# Altium integrated library Product_Sorter.IntLib: 29 symbols
Pins are listed as number, name and electrical type; pins without a type are passive.

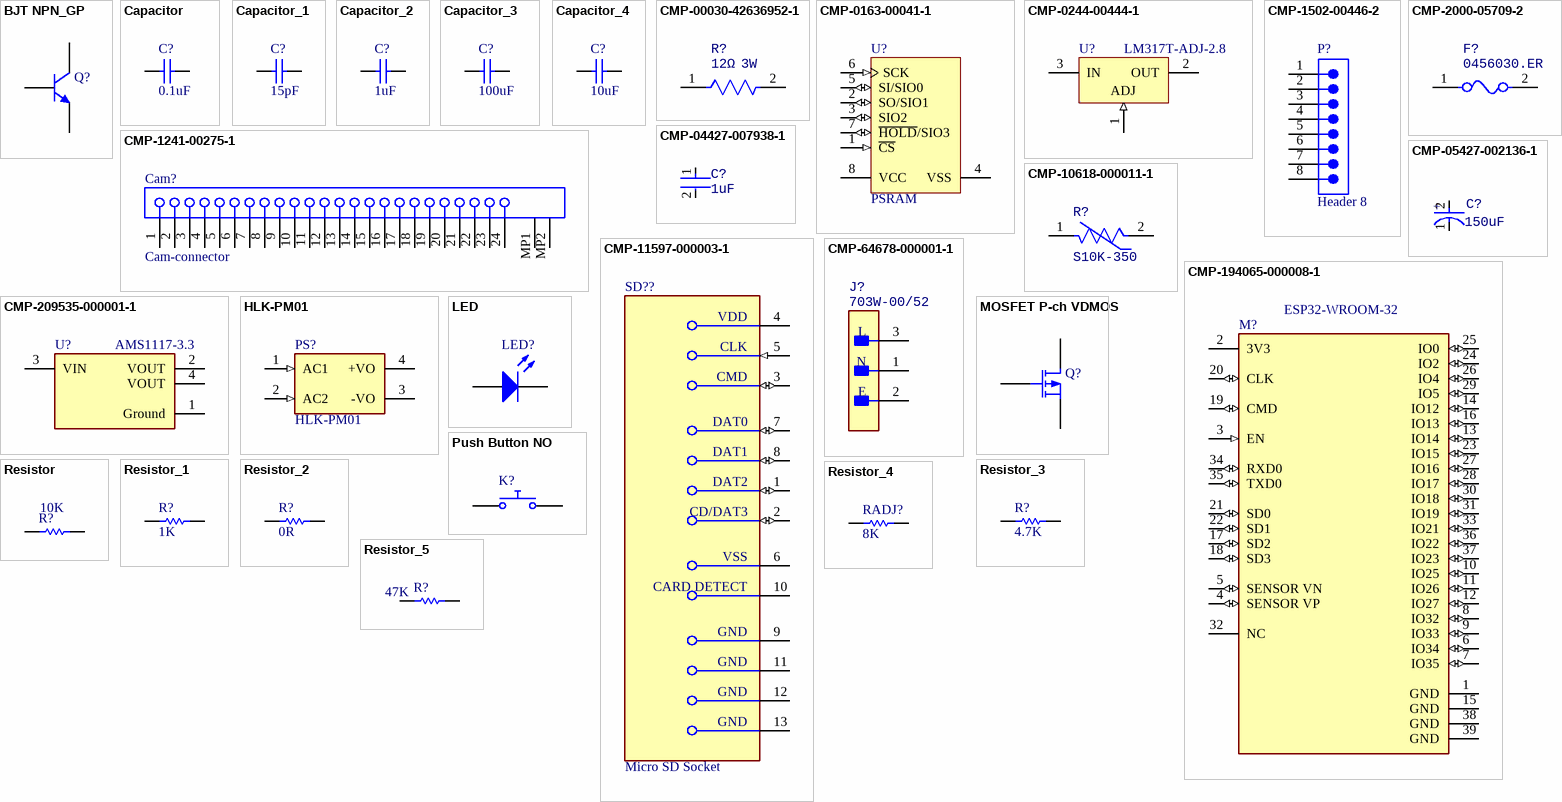
[diagram p0: symbols BJT NPN_GP to Resistor_5]

## BJT NPN_GP
designator Q?, comment Bipolar NPN 3 Pins Transistor Gummel-Poon Model  (value not drawn)
SimulationGenericComponent: True; BF: 100; AF: 0; BR: 1; EG: 1.11; FC: 0.5; IS: 1e-16; MJC: 0.33; NC: 2; NE: 1.5; TNOM: 27; VBC_MAX: 1e99; VJC: 0.75; XTI: 3; CJC: 0; CJE: 0; CJS: 0; CTC: 0; CTE: 0; CTS: 0; IKF: 0; IKR: 0; IRB: 0; ISC: 0; ISE: 0; ISS: 0; ITF: 0; KF: 0; MJE: 0.33; MJS: 0; NF: 1; NKF: 0.5; NR: 1; NS: 1; PTF: 0; RB: 0; RBM: 0; RC: 0; RE: 0; SUBS: 1; TBF1: 0; TBF2: 0; TBR1: 0; TBR2: 0; TF: 0; TIKF1: 0; TIKF2: 0; TIKR1: 0; TIKR2: 0; TIRB1: 0; TIRB2: 0; TIS1: 0; TIS2: 0; TISC1: 0; TISC2: 0; TISE1: 0; TISE2: 0; TITF1: 0; TITF2: 0; TLEV: 0; TLEVC: 0; TMJC1: 0; TMJC2: 0; TMJE1: 0; TMJE2: 0; TMJS1: 0; TMJS2: 0; TNC1: 0; TNC2: 0; TNE1: 0; TNE2: 0; TNF1: 0; TNF2: 0; TNR1: 0; TNR2: 0; TNS1: 0; TNS2: 0; TR: 0; TRB1: 0; TRB2: 0; TRC1: 0; TRC2: 0; TRE1: 0; TRE2: 0; TRM1: 0; TRM2: 0; TTF1: 0; TTF2: 0; TTR1: 0; TTR2: 0; TVAF1: 0; TVAF2: 0; TVAR1: 0; TVAR2: 0; TVJC: 0; TVJE: 0; TVJS: 0; VAF: 0; VAR: 0; VBE_MAX: 1e99; VCE_MAX: 1e99; VJE: 0.75; VJS: 0.75; VTF: 0; XCJC: 1; XTB: 0; XTF: 0
simulation model NPN_Gummel_Poon (NGSPICE_NPN_MOD_GUMMEL_POON)
pins: 1 C, 2 B, 3 E

## Capacitor
designator C?  value 0.1uF  (hidden comment: Capacitor)
SimulationGenericComponent: True
simulation model C_Capacitor_Default (CAP)
pins: 1, 2

## Capacitor_1
designator C?, comment value 15pF  (hidden comment: Capacitor)
SimulationGenericComponent: True
simulation model C_Capacitor_Default (CAP)
pins: 1, 2

## Capacitor_2
designator C?, comment value 1uF  (hidden comment: Capacitor)
SimulationGenericComponent: True
simulation model C_Capacitor_Default (CAP)
pins: 1, 2

## Capacitor_3
designator C?, comment value 100uF  (hidden comment: Capacitor)
SimulationGenericComponent: True
simulation model C_Capacitor_Default (CAP)
pins: 1, 2

## Capacitor_4
designator C?, comment value 10uF  (hidden comment: Capacitor)
SimulationGenericComponent: True
simulation model C_Capacitor_Default (CAP)
pins: 1, 2

## CMP-00030-42636952-1
designator R?, comment Power Rating: 3W  Resistance: 12Ω  (hidden comment: RWM04103R90JR15E1)
RWM04103R90JR15E1 Resistor; Wirewound; Res 3.9 Ohms; Pwr-Rtg 3 W; Tol 5%; Axial; Vitreous Enamel; NexarPartId: 42636952; Lead Diameter: 800µm; Voltage Rating: 120V; Temperature Coefficient: 75ppm/°C; REACH SVHC: No SVHC; Military Standard: Not; Tolerance: 5%; Min Operating Temperature: -55°C; Case/Package: Axial; Voltage Rating (AC): 120V; Diameter: 5.5mm; Termination: Axial; Length: 12mm; Width: 5.5mm; Mount: Through Hole; Max Operating Temperature: 350°C; Max Power Dissipation: 3W; Contact Plating: Copper, Silver, Tin; Height: 6.5mm; RoHS: Compliant; Number of Terminations: 2; Voltage Rating (DC): 120V; Composition: Wirewound; Radiation Hardening: No
footprint FP-RWM0410-MFG (Resistor; Wirewound; Res 3.9 Ohms; Pwr-Rtg 3 W; Tol 5%; Axial; Vitreous Enamel)
pins: 1, 2

## CMP-0163-00041-1
designator U?, comment PSRAM
512K bits SPI Serial SRAM with SDI and SQI Interface, 2.5 to 5.5 V, 20 MHz, -40 to 85 degC, 8-pin SOIC (SN8), Tube; Manufacturer: Microchip; PartNumber: 23LC512-I/SN; ComponentLink1Description: Manufacturer URL; DatasheetVersion: Rev. A; ComponentLink3Description: Package Specification; ComponentLink2URL: http://ww1.microchip.com/downloads/en/DeviceDoc/25155A.pdf; ComponentLink4Description: Product URL; ComponentLink4URL: http://www.microchip.com/23LC512; PackageReference: SOIC-SN8; PackageVersion: C04-057C; ComponentLink1URL: http://www.microchip.com; ComponentLink2Description: Datasheet; PackageDescription: 8-Lead Plastic Small Outline, 4.9 x 3.9 mm Body, 1.27 mm Pitch; ComponentLink3URL: http://www.microchip.com/stellent/groups/techpub_sg/documents/packagingspec/en012702.pdf; Mounting Technology: Surface Mount
footprint MCHP-SOIC-SN8_N (SOIC, 8-Leads, Body 4.9x3.9mm, Pitch 1.27mm, IPC Medium Density)
footprint MCHP-SOIC-SN8_M (SOIC, 8-Leads, Body 4.9x3.9mm, Pitch 1.27mm, IPC Low Density)
footprint MCHP-SOIC-SN8_L (SOIC, 8-Leads, Body 4.9x3.9mm, Pitch 1.27mm, IPC High Density)
pins: 1 ~{CS} (in) "Chip Select Input", 2 SO/SIO1 (io) "Serial Output/SDI/SQI Pin", 3 SIO2 (io) "SQI Pin", 4 VSS (power) "Ground", 5 SI/SIO0 (io) "Serial Input/SDI/SQI Pin", 6 SCK (in) "Serial Clock", 7 ~{HOLD}/SIO3 (io) "Hold/SQI Pin", 8 VCC (power) "Power Supply"

## CMP-0244-00444-1
designator U?, comment LM317T-ADJ-2.8
1.5A, 1.2V to 37V Adjustable Voltage Regulator, 3-Pin TO-220; PackageVersion: 2011; ComponentLink1URL: http://www.st.com; ComponentLink2URL: http://www.st.com/internet/com/TECHNICAL_RESOURCES/TECHNICAL_LITERATURE/DATASHEET/CD00000455.pdf; PackageDescription: TO, Thru-Hole, Vertical, Heatsink Mounted; 3 In-Line Leads; Pitch 2.54 mm; PackageReference: TO-220; ComponentLink1Description: Manufacturer URL; ComponentLink3URL: http://www.st.com/internet/com/TECHNICAL_RESOURCES/TECHNICAL_LITERATURE/PACKAGE_INFORMATION/CD00004649.pdf; DatasheetVersion: 1/11/2011; ComponentLink2Description: Datasheet; ComponentLink3Description: Package Specification
footprint TO-220 (TO, Thru-Hole, Vertical, Heatsink Mounted; 3 In-Line Leads; Pitch 2.54 mm)
pins: 1 ADJ (in), 2 OUT (power), 3 IN (power)

## CMP-1241-00275-1
designator Cam?, comment Cam-connector
0.5 mm Pitch Easy-On(TM) Type FPC Connector, 2.0 mm Mated Height, Right Angle, ZIF, SMT, Top Contact, 24 Circuits, -40 to 85 degC, ELV and RoHS Compliant, Tape and Reel; PartNumber: 52435-2471; Manufacturer: Molex; Pitch - Mating Interface: 0.50mm; PCB Locator: No; Current (Max per Contact): 0.5A; PCB Retention: Yes; Circuits (Loaded): 24; Material - Metal: Phosphor Bronze; Material - Plating Termination: Gold; Mated Height: 2.00mm; Entry Angle: 90degrees Angle; Durability (mating cycles max): 20; Voltage (Max): 50V AC (RMS)/DC; ComponentLink1Description: Manufacturer URL; Polarized to PCB: Yes; Contact Position: Top; RoHS: TRUE; ComponentLink3Description: Package Specification; Mounting Technology: Surface Mount; ComponentLink2URL: http://www.molex.com/webdocs/datasheets/pdf/en-us/0524352471_FFC_FPC_CONNECTORS.pdf; PackageDescription: 24-Lead FPC Connector, Pitch 0.5 mm; Packing: Tape and Reel; ComponentLink1URL: http://www.molex.com/molex/index.jsp; PackageVersion: Rev. D, 07/2010; ComponentLink3URL: http://www.molex.com/pdm_docs/sd/524352471_sd.pdf; Stackable: No; PackageReference: 52435-2471; Number of Rows: 1; ComponentLink2Description: Datasheet; Orientation: Right Angle; Material - Plating Mating: Gold
footprint MOLX-52435-2471 (FPC Connector, 24-Leads, Right Angle, Pitch 0.5 mm, Mated Height 2.0 mm, SMT)
pins: 1, 2, 3, 4, 5, 6, 7, 8, 9, 10, 11, 12, 13, 14, 15, 16, 17, 18, 19, 20, 21, 22, 23, 24, MP1, MP2

## CMP-1502-00446-2
designator P?, comment Header 8
NexarPartId: 23024701; Pitch: 3mm; Number of Contacts: 8; Insulation Resistance: 1GΩ; Connector Type: Male Pin, Socket; Contact Resistance: 10mΩ; Gender: Male; Current Rating: 5A; Operating Supply Voltage: 250V; Height: 11mm; Max Operating Temperature: 105°C; Mount: Through Hole; Orientation: Vertical; Fastening Type: Ramp; Number of Positions: 8; Lead Pitch: 3mm; Number of Rows: 1; RoHS: Compliant; Termination: Kinked Pin; Width: 27.65mm; Contact Material: Copper; REACH SVHC: Unknown; Contact Plating: Tin; Length: 27.65mm; Color: Black; Min Operating Temperature: -40°C; Number of Pins: 8
footprint 66200811122 (Header, Single Row Male Vertical Header, THT, Tin, 3mm pitch, 8 Pins, WR-MPC3)
pins: 1, 2, 3, 4, 5, 6, 7, 8

## CMP-2000-05709-2
designator F?, comment 0456030.ER
FUSE BOARD MNT 30A 125VAC 72VDC; Manufacturer: Littelfuse; Fuse Interrupt Ac Current: 300A; Fuse Blow Speed: Fast; Voltage Rating: 125V; Max Fuse Dc Voltage: 72V; Fuse Interrupt Dc Current: 1000A; Resistance: 0.00132Ω; Value: 0.00132Ω; Fuse I2T: 81A2Sec; Fuse Voltage Drop: 69.9mV; Package: 0456; Digikey Description: FUSE BOARD MNT 30A 125VAC 72VDC; Mouser Description: 456 Series Fast-Acting 125 V 30 A 10.10 x 3.05 mm NANO2® SMT Ceramic Fuse; Height: 3.05mm; Temperature: -55°C to +125°C; Fuse Current: 30A; Octopart: https://octopart.com/0456030.er-littelfuse-7502597; Ipc Land Pattern Name: CAPC1008305X305; Device Class L3: unset; ComponentLink2URL: https://www.littelfuse.com/~/media/electronics/datasheets/fuses/littelfuse_fuse_456_datasheet.pdf.pdf; Automotive: No; Lead Free: Yes; Device Class L1: Circuit Protection; Temperature Range Low: -55°C; Category: Fuse; Max Fuse Ac Voltage: 125V; Temperature Range High: +125°C; RoHS: TRUE; ComponentLink2Description: Datasheet; Device Class L2: Fuses; Manufacturer Part Number: 0456030.ER
footprint FP-0456-MFG
footprint FP-0456-IPC_C
footprint FP-0456-IPC_B
footprint FP-0456-IPC_A
pins: 1, 2

## CMP-04427-007938-1
designator C?, comment Capacitance: 1uF  (hidden comment: 12101C105KAZ2A)
General Purpose Ceramic Capacitor, 1210, 1uF, 10%, X7R, 15%, 100V; Dissipation Factor: 2.5%; Package Quantity: 1; Contact Plating: Tin; Lead Free: Lead Free; Construction: Flat; Dielectric: X7R; Width: 2.5mm; Voltage Rating (DC): 100V; Case Code (Imperial): 1210; Case Code (Metric): 3225; Packaging: Tape and Reel; Min Operating Temperature: -55°C; Tolerance: 10%; Voltage: 100V; RoHS Compliant: Yes; Voltage Rating: 100V; Max Operating Temperature: 125°C; REACH SVHC: No SVHC; Features: Soft Termination; Height: 2.79mm; Termination: SMD/SMT; Thickness: 0.11inch; Case/Package: 1210; Length: 3.2mm; Series: FLEXITERM®; Dielectric Material: Ceramic; Mount: Surface Mount; Radiation Hardening: No; Depth: 2.5mm
footprint FP-1210-L_3_3_0_4-W_2_5_0-IPC_B
footprint FP-1210-L_3_3_0_4-W_2_5_0-IPC_A
footprint FP-1210-L_3_3_0_4-W_2_5_0-MFG
footprint FP-1210-L_3_3_0_4-W_2_5_0-IPC_C
pins: 1, 2

## CMP-05427-002136-1
designator C?, comment Capacitance: 150uF  (hidden comment: EEE-FK1A151P)
CAP ALUM 150UF 20% 10V SMD; Impedance: 360mR; Ripple Current (AC): 240mA; Polarity: Polar; Life (Hours): 2000Hour; Leakage Current: 3uA; Lead Diameter: 0.65mm; Min Operating Temperature: -55°C; Lead Pitch: 1.8mm; Size: 5.8mm; Diameter: 6.3mm; Package Quantity: 1000; Number of Pins: 2; Termination: SMD/SMT; Mount: Surface Mount; Construction: Cylindrical; Series: FK; Case/Package: Radial; Lead Free: Lead Free; Voltage: 10V; Packaging: Tape and Reel; Height: 5.8mm; Max Operating Temperature: 105°C; Voltage Rating (DC): 10V; Reach SVHC Compliant: Yes; Width: 7.8mm; Tolerance: 20%; Contact Plating: Tin; Voltage Rating: 10V; Ratings: AEC-Q200; RoHS Compliant: Yes; Radiation Hardening: No; ESR (Equivalent Series Resistance): 360mR; Height - Seated (Max): 0.24inch; Length: 5.8mm; Ripple Current: 240mA
footprint FP-FKD-MFG
pins: 1 C, 2 A
text: +

## CMP-10618-000011-1
designator R?, comment S10K-350
VARISTOR 47V 1KA DISC 14MM; Manufacturer Part Number: B72214S0300K101; Manufacturer: EPCOS; Clamping Current: 10A; Clamping Voltage: 93V; Voltage Tolerance: 10%; Voltage Rating Dc: 38V; Voltage Rating Ac: 30V; Value: 4950pF; Digikey Description: VARISTOR 47V 1KA DISC 14MM; ComponentLink2Description: Datasheet; Temperature: -40°C to +105°C; Category: Res; Device Class L1: Circuit Protection; Octopart: https://octopart.com/b72214s0300k101-epcos-11931390; Package: 0; Mouser Description: Varistors 30volts 1000A; Temperature Range Low: -40°C; Device Class L2: Varistors; Height: 18.5mm; Varistor Voltage: 47V; Device Class L3: unset; RoHS: TRUE; Temperature Range High: +105°C; ComponentLink2URL: https://www.tdk-electronics.tdk.com/inf/70/db/var/SIOV_Leaded_StandarD.pdf; Lead Free: Yes; Capacitance: 4950pF; Automotive: No
footprint FP-B72214S0300K101-MFG
pins: 1, 2

## CMP-11597-000003-1
designator SD??, comment Micro SD Socket
CONN MICRO SD CARD HINGED TYPE; Pitch: 1.1mm; Connector Type: Connector; Current Rating: 500mA; Voltage Rating (AC): 125V; Gender: Female; Insulation Resistance: 1GR; Number of Positions: 8; Contact Resistance: 100mR; Packaging: Tape and Reel; Flammability Rating: UL94 V-0; Lead Free: Lead Free; Min Operating Temperature: -25°C; Orientation: Right Angle; Width: 13.8mm; Number of Rows: 1; Housing Material: Polymer; Package Quantity: 1; Mount: Surface Mount; Max Current Rating: 500mA; Radiation Hardening: No; Max Operating Temperature: 85°C; Contact Plating: Gold; Depth: 1.83mm; Contact Material: Gold; Length: 14.1mm; Number of Contacts: 8; Termination: Solder
footprint FP-DM3CS-SF-MFG
pins: 1 DAT2 (io), 2 CD/DAT3 (io), 3 CMD (io), 4 VDD (power), 5 CLK (in), 6 VSS (power), 7 DAT0 (io), 8 DAT1 (io), 9 GND (power), 10 CARD DETECT, 11 GND (power), 12 GND (power), 13 GND (power)

## CMP-64678-000001-1
designator J?, comment 703W-00/52
PWR ENT RCPT IEC320-C14 PNL SLDR; Max Voltage Rating (AC): 250V; Approvals: UL; Current Rating: 15A; Number of Poles: 2; Fuse: No; Number of Positions: 3; Gender: Receptacle; Panel Thickness: 0.12inch; Pitch: 7mm; Voltage Rating (AC): 250V; Orientation: Right Angle; Contact Plating: Tin; Mount: Through Hole; Housing Material: Thermoplastic; Current: 15A; Termination: Solder; REACH SVHC: No SVHC; Lead Free: Lead Free; Voltage Rating: 250V; Number of Contacts: 3; Color: Black; Connector Type: Receptacle; Packaging: Bulk; Max Current Rating: 15A; Voltage Rating (DC): 250V; Package Quantity: 100
footprint FP-703W-00-52-MFG
pins: 1 N, 2 E, 3 L

## CMP-194065-000008-1
designator M?, comment ESP32-WROOM-32
RX TXRX MOD WIFI SURFACE MOUNT; Frequency: 2.5GHz; Sensitivity: -98dBm; Operating Supply Voltage: 3.6V; Data Rate: 150Mbps; Weight: 0.088185oz; Package Quantity: 550; Min Operating Temperature: -40°C; Mount: Surface Mount; Max Operating Temperature: 85°C; Packaging: Cut Tape; Case/Package: SMD/SMT
footprint FP-ESP32-WROOM-32-MFG
pins: 1 GND (power), 2 3V3 (power), 3 EN (in), 4 SENSOR VP (io), 5 SENSOR VN (io), 6 IO34 (io), 7 IO35 (io), 8 IO32 (io), 9 IO33 (io), 10 IO25 (io), 11 IO26 (io), 12 IO27 (io), 13 IO14 (io), 14 IO12 (io), 15 GND (power), 16 IO13 (io), 17 SD2 (io), 18 SD3 (io), 19 CMD (io), 20 CLK (io), 21 SD0 (io), 22 SD1 (io), 23 IO15 (io), 24 IO2 (io), 25 IO0 (io), 26 IO4 (io), 27 IO16 (io), 28 IO17 (io), 29 IO5 (io), 30 IO18 (io), 31 IO19 (io), 32 NC, 33 IO21 (io), 34 RXD0 (io), 35 TXD0 (io), 36 IO22 (io), 37 IO23 (io), 38 GND (power), 39 GND (power)

## CMP-209535-000001-1
designator U?, comment AMS1117-3.3
LDO Voltage Regulators 1A, 3.3V; Manufacturer: Advanced Monolithic Systems; Dropout Voltage: 1.1V; Output Type: Fixed; Nominal Supply Current: 5mA; Max Power Dissipation: 1.2W; Max Supply Voltage: 15V; Number Of Outputs: 1; Standoff Height: 0.64mm; Max Junction Temp: +125°C; Height: 1.8mm; Package: AMS1117; Device Class L2: Power Management ICs; ComponentLink2Description: Datasheet; ComponentLink2URL: http://www.advanced-monolithic.com/pdf/ds1117.pdf; Category: IC; RoHS: TRUE; Automotive: No; Device Class L1: Integrated Circuits (ICs); Output Current: 1A; Device Class L3: Voltage Regulators - Linear; Temperature: -40°C to +125°C; Output Voltage: 3.3V; Manufacturer Part Number: AMS1117-3.3; Temperature Range Low: -40°C; Octopart: https://octopart.com/ams1117-3.3-advanced+monolithic+systems-25899300; Lead Free: Yes; Ipc Land Pattern Name: SOT229P700X180-4; Temperature Range High: +125°C
footprint FP-AMS1117-IPC_C
footprint FP-AMS1117-IPC_B
footprint FP-AMS1117-IPC_A
pins: 1 Ground (power), 2 VOUT, 3 VIN (power), 4 VOUT

## HLK-PM01
designator PS?
The HLK-PM01 is a small size low cost AC to DC converter which can take in 110V/220V AC at 50/60 Hz and give 5V 3W output. The module is can be used in designs which run on 5V and needs to be powered form the AC mains.; MF: Hi-link; Package: None; Price: None; Value: *; SnapEDA_Link: https://www.snapeda.com/parts/hlk-pm01/Hi-link/view-part/?ref=snap; MP: hlk-pm01; Availability: Not in stock; Check_prices: https://www.snapeda.com/parts/hlk-pm01/Hi-link/view-part/?ref=eda
footprint CONV_HLK-PM01
pins: 1 AC1 (in), 2 AC2 (in), 3 -VO (power), 4 +VO (power)

## LED
designator LED?, comment Light-Emitting Diode  (value not drawn)
AF: 1; BV: 0; BV_MAX: 1e99; EG: 1.11; FC: 0.5; IBV: 0.001; IS: 1e-14; MJSW: 0.33; NTUN: 30; TNOM: 27; XTI: 3; SimulationGenericComponent: True; CJO: 0; CJP: 0; CTA: 0; CTP: 0; FCS: 0.5; FV_MAX: 1e99; IKF: 0; IKR: 0; ISR: 1e-14; JSW: 0; JTUN: 0; JTUNSW: 0; KEG: 1; KF: 0; LEVEL: 1; N: 1; NBV: 1; NR: 1; NS: 1; PHP: 1; RS: 0; TCV: 0; TLEV: 0; TLEVC: 0; TM1: 0; TM2: 0; TPB: 0; TPHP: 0; TRS: 0; TRS2: 0; TT: 0; TTT1: 0; TTT2: 0; VJ: 1; XTITUN: 3
simulation model diode (Diodes)
pins: 1 A, 2 K

## MOSFET P-ch VDMOS
designator Q?, comment P-channel Power MOSFET VDMOS Model  (value not drawn)
XTI: 0; A: 1; BV: 1e30; EG: 1.11; FC: 0.5; IBV: 1e-10; IS: 1e-14; PHI: 0.6; TNOM: 27; VJ: 0.8; SimulationGenericComponent: True; CGDMAX: 0; CGDMIN: 0; CGS: 0; CJO: 0; KP: 1; KSUBTHRES: 0; LAMBDA: 0; M: 0.5; MTRIODE: 1; N: 1; NBV: 1; NCHAN: 1; PCHAN: 1; RB: 0; RD: 0; RDS: 1e30; RG: 0; RQ: 0; RS: 0; SUBSHIFT: 0; SUBSLOPE: 0; THETA: 0; TT: 0; VQ: 0; VTO: 0
simulation model VDMOS_Pchan (Power MOS model P-chanel VDMOS)
pins: 1 D, 2 G, 3 S

## Push Button NO
designator K?, comment Push Button Normally Opened  (value not drawn)
closed: 0; Rclosed: 1m; Ropen: 1Meg; SimulationGenericComponent: True
simulation model PUSH_BUTTON_NO (Switches & Buttons)
pins: 1, 2

## Resistor
designator R?  value 10K  (hidden comment: Resistor)
TC1: 0; SimulationGenericComponent: True; TC2: 0
simulation model R_Resistor_Default (Model Description)
pins: 1, 2

## Resistor_1
designator R?, comment value 1K  (hidden comment: Resistor)
TC1: 0; SimulationGenericComponent: True; TC2: 0
simulation model R_Resistor_Default (Model Description)
pins: 1, 2

## Resistor_2
designator R?, comment value 0R  (hidden comment: Resistor)
TC1: 0; SimulationGenericComponent: True; TC2: 0
simulation model R_Resistor_Default (Model Description)
pins: 1, 2

## Resistor_3
designator R?, comment value 4.7K  (hidden comment: Resistor)
TC1: 0; SimulationGenericComponent: True; TC2: 0
simulation model R_Resistor_Default (Model Description)
pins: 1, 2

## Resistor_4
designator RADJ?, comment value 8K  (hidden comment: Resistor)
TC1: 0; SimulationGenericComponent: True; TC2: 0
simulation model R_Resistor_Default (Model Description)
pins: 1, 2

## Resistor_5
designator R?, comment value 47K  (hidden comment: Resistor)
TC1: 0; SimulationGenericComponent: True; TC2: 0
simulation model R_Resistor_Default (Model Description)
pins: 1, 2